# EAGLE library part AUDIO (library jt-pc)
Audio connector
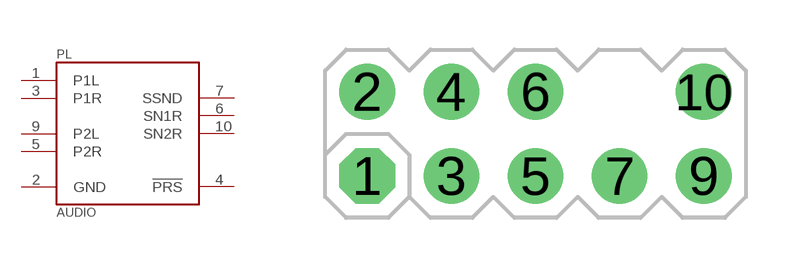
[diagram p2: symbol with the pads of AUDIO; footprint AUDIO]

Designator prefix PL

## AUDIO  [AUDIO]
1  P1L
2  GND  pwr
3  P1R
4  !PRS
5  P2R
6  SN1R
7  SSND
9  P2L
10  SN2R

## Footprint AUDIO (pad centres in mm)
Motherboard audio
drill 1 pad 1.676 octagon: 1 0,0
drill 1 pad 1.676 round: 2 0,2.54; 3 2.54,0; 4 2.54,2.54; 5 5.08,0; 6 5.08,2.54; 7 7.62,0; 9 10.16,0; 10 10.16,2.54